# Altium schematic symbol library PEP1-S5-D12-M.SchLib: 1 symbol
Pins are listed as number, name and electrical type; pins without a type are passive.

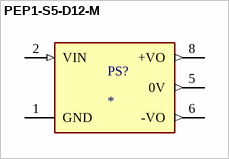
[diagram p0: symbol PEP1-S5-D12-M]

## PEP1-S5-D12-M
designator PS?
MP: PEP1-S5-D12-M; MF: {'manufacturer': u'CUI Inc.'}; Availability: Unavailable; Value: *; Package: None; Price: None
footprint CONV_PEP1-S5-D12-M
pins: 1 GND (power), 2 VIN (in), 5 0V (out), 6 -VO (out), 8 +VO (out)